# EAGLE library part DF12D(*)-60DP-0.5V (library hirose-df12)
0.5mm Pitch SMT Board to Board Connector Source: http://www.hirose.co.jp/catalogj_hp/jd_DF12_20131205.pdf http://www.hirose.co.jp/cataloge_hp/en_DF12_20130411.pdf
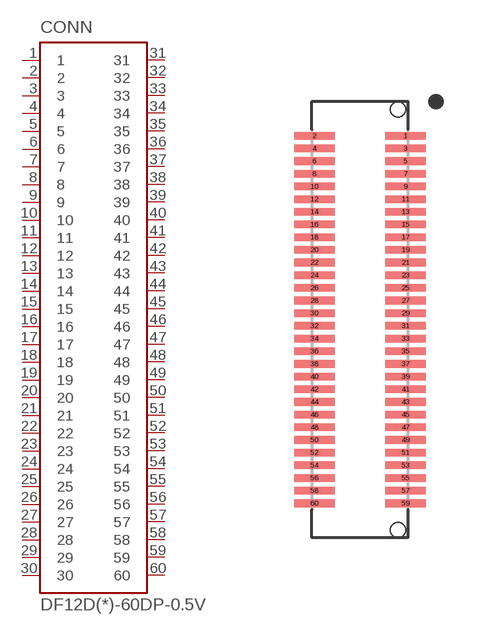
[diagram p29: symbol with the pads of DF12D(*)-60DP-0.5V; footprint DF12D(*)-60DP-0.5V]

Designator prefix CONN

## DF12D(3.0)-60DP-0.5V, DF12D(3.5)-60DP-0.5V, DF12D(4.0)-60DP-0.5V, DF12D(5.0)-60DP-0.5V  [DF12D(*)-60DP-0.5V]
1  1
2  2
3  3
4  4
5  5
6  6
7  7
8  8
9  9
10  10
11  11
12  12
13  13
14  14
15  15
16  16
17  17
18  18
19  19
20  20
21  21
22  22
23  23
24  24
25  25
26  26
27  27
28  28
29  29
30  30
31  31
32  32
33  33
34  34
35  35
36  36
37  37
38  38
39  39
40  40
41  41
42  42
43  43
44  44
45  45
46  46
47  47
48  48
49  49
50  50
51  51
52  52
53  53
54  54
55  55
56  56
57  57
58  58
59  59
60  60

## Footprint DF12D(*)-60DP-0.5V (pad centres in mm)
smd 1.6 x 0.3: 1 1.8,7.25; 2 -1.8,7.25; 3 1.8,6.75; 4 -1.8,6.75; 5 1.8,6.25; 6 -1.8,6.25; 7 1.8,5.75; 8 -1.8,5.75; 9 1.8,5.25; 10 -1.8,5.25; 11 1.8,4.75; 12 -1.8,4.75; 13 1.8,4.25; 14 -1.8,4.25; 15 1.8,3.75; 16 -1.8,3.75; 17 1.8,3.25; 18 -1.8,3.25; 19 1.8,2.75; 20 -1.8,2.75; 21 1.8,2.25; 22 -1.8,2.25; 23 1.8,1.75; 24 -1.8,1.75; 25 1.8,1.25; 26 -1.8,1.25; 27 1.8,0.75; 28 -1.8,0.75; 29 1.8,0.25; 30 -1.8,0.25; 31 1.8,-0.25; 32 -1.8,-0.25; 33 1.8,-0.75; 34 -1.8,-0.75; 35 1.8,-1.25; 36 -1.8,-1.25; 37 1.8,-1.75; 38 -1.8,-1.75; 39 1.8,-2.25; 40 -1.8,-2.25; 41 1.8,-2.75; 42 -1.8,-2.75; 43 1.8,-3.25; 44 -1.8,-3.25; 45 1.8,-3.75; 46 -1.8,-3.75; 47 1.8,-4.25; 48 -1.8,-4.25; 49 1.8,-4.75; 50 -1.8,-4.75; 51 1.8,-5.25; 52 -1.8,-5.25; 53 1.8,-5.75; 54 -1.8,-5.75; 55 1.8,-6.25; 56 -1.8,-6.25; 57 1.8,-6.75; 58 -1.8,-6.75; 59 1.8,-7.25; 60 -1.8,-7.25
hole 0.6 at 1.5,8.3
hole 0.6 at 1.5,-8.3